# Altium footprint library Connector Wire to Board.PcbLib: 47 footprints (part 2 of 3)
Each footprint in its own frame and in the unit in brackets; x right, y up, seen from the top. Pads: shape width x height; smd on the part's side, far side on the other; paste and mask are expansions set on the pad; w line width, h text height; cw(c..) or ccw(c..) is an arc to the next point about the centre after c.
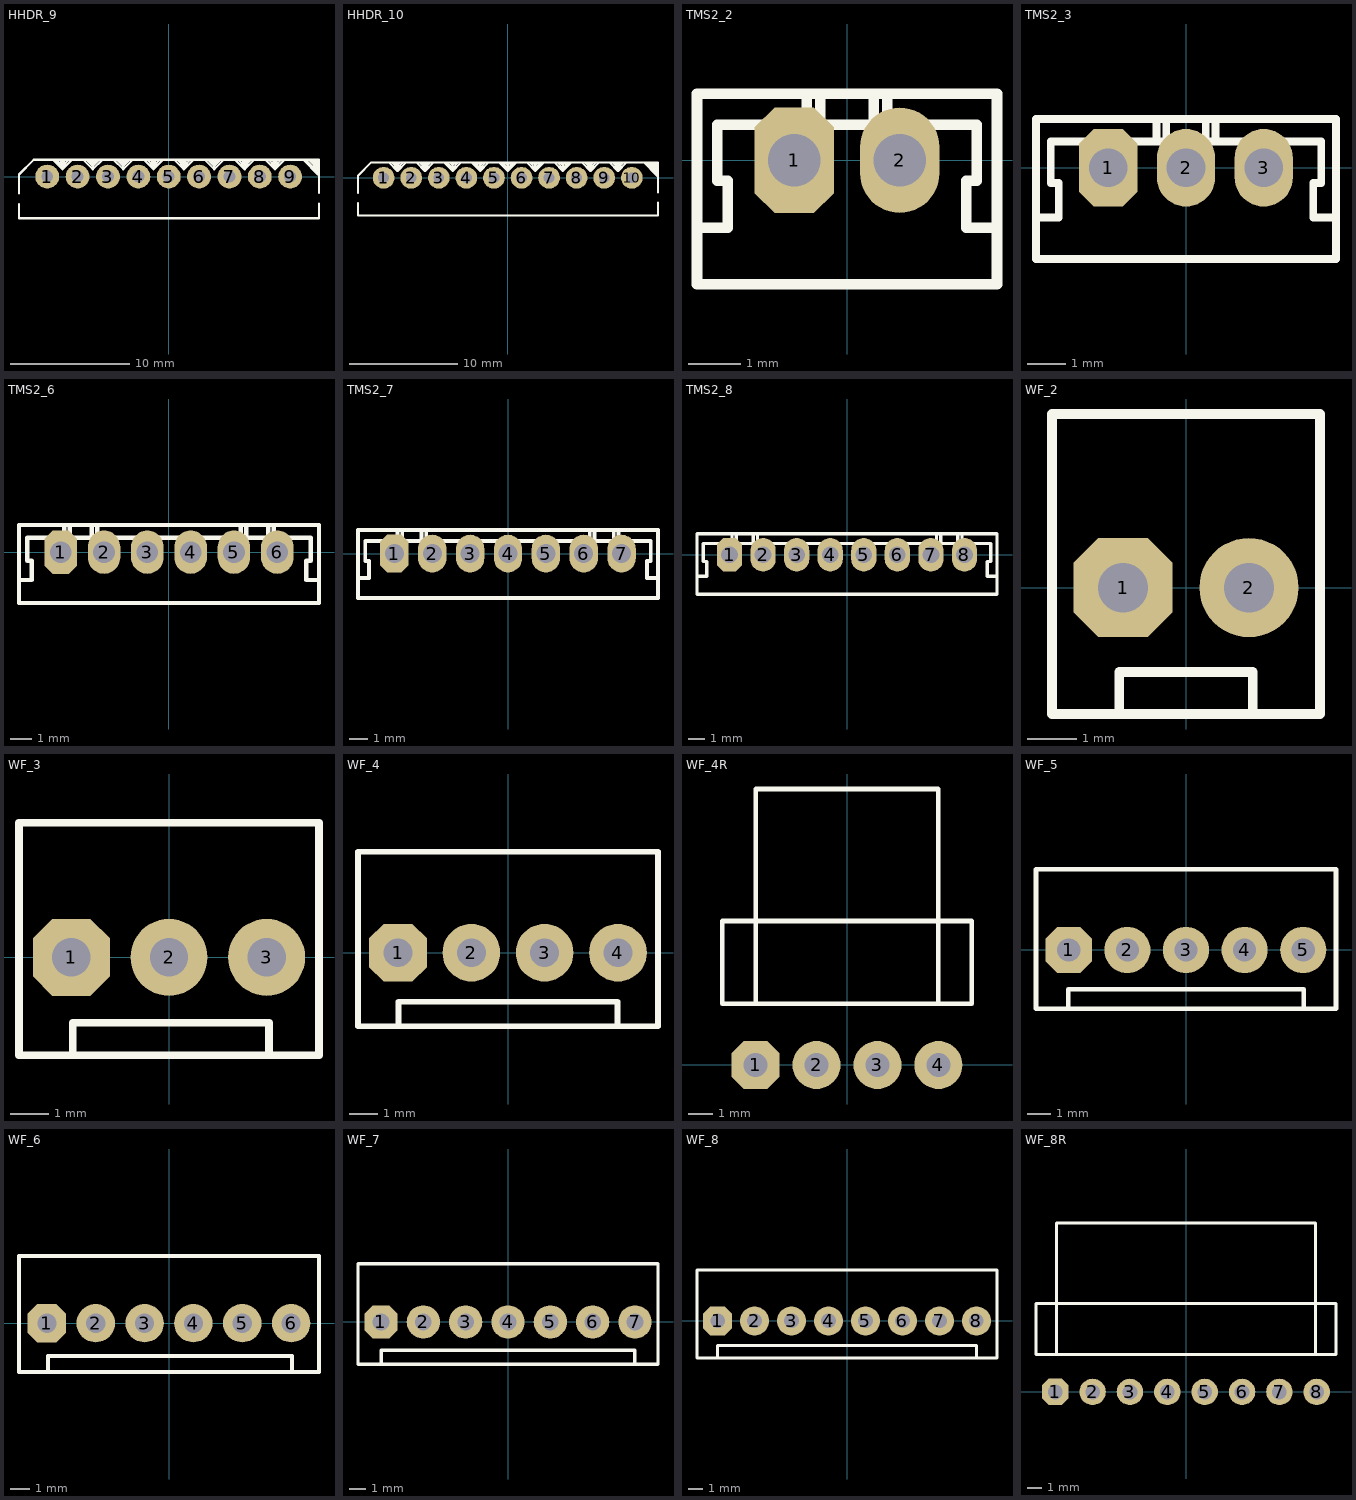
[diagram p1: the footprints below, top view; thin cyan lines are the x and y axes]

## HHDR_9 [mm]
pads (9):
  round 2 hole 1: 1(-10.16,0) 2(-7.62,0) 3(-5.08,0) 4(-2.54,0) 5(0,0) 6(2.54,0) 7(5.08,0) 8(7.62,0) 9(10.16,0)
Top Overlay:
  lines w0.2: -12.525,-2.325 -12.525,-3.485 12.573,-3.485 12.573,-2.269 ; -12.525,-1.405 -12.525,0.185 -11.295,1.415 12.573,1.415 12.573,-1.349 ; -9.69,1.415 -8.89,0.615 ; -9.416,1.415 -8.89,0.889 -8.364,1.415 ; -9.162,1.415 -8.89,1.143 -8.618,1.415 ; -8.89,1.415 -8.89,0.615 ; -8.09,1.415 -8.89,0.615 ; -7.15,1.415 -6.35,0.615 ; -6.876,1.415 -6.35,0.889 -5.824,1.415 ; -6.622,1.415 -6.35,1.143 -6.078,1.415 ; -6.35,1.415 -6.35,0.615 ; -5.55,1.415 -6.35,0.615 ; -4.61,1.415 -3.81,0.615 ; -4.336,1.415 -3.81,0.889 -3.284,1.415 ; -4.082,1.415 -3.81,1.143 -3.538,1.415 ; -3.81,1.415 -3.81,0.615 ; -3.01,1.415 -3.81,0.615 ; -2.07,1.415 -1.27,0.615 ; -1.796,1.415 -1.27,0.889 -0.744,1.415 ; -1.542,1.415 -1.27,1.143 -0.998,1.415 ; -1.27,1.415 -1.27,0.615 ; -0.47,1.415 -1.27,0.615 ; 0.47,1.415 1.27,0.615 ; 0.744,1.415 1.27,0.889 1.796,1.415 ; 0.998,1.415 1.27,1.143 1.542,1.415 ; 1.27,1.415 1.27,0.615 ; 2.07,1.415 1.27,0.615 ; 3.01,1.415 3.81,0.615 ; 3.284,1.415 3.81,0.889 4.336,1.415 ; 3.538,1.415 3.81,1.143 4.082,1.415 ; 3.81,1.415 3.81,0.615 ; 4.61,1.415 3.81,0.615 ; 5.55,1.415 6.35,0.615 ; 5.824,1.415 6.35,0.889 6.876,1.415 ; 6.078,1.415 6.35,1.143 6.622,1.415 ; 6.35,1.415 6.35,0.615 ; 7.15,1.415 6.35,0.615 ; 8.09,1.415 8.89,0.615 ; 8.364,1.415 8.89,0.889 9.416,1.415 ; 8.618,1.415 8.89,1.143 9.162,1.415 ; 8.89,1.415 8.89,0.615 ; 9.69,1.415 8.89,0.615 ; 11.255,1.415 12.485,0.185 ; 11.469,1.415 12.485,0.399 12.485,0.653 11.723,1.415 11.977,1.415 12.485,0.907 12.485,1.161 12.231,1.415

## HHDR_10 [mm]
pads (10):
  round 2 hole 1: 1(-11.43,0) 2(-8.89,0) 3(-6.35,0) 4(-3.81,0) 5(-1.27,0) 6(1.27,0) 7(3.81,0) 8(6.35,0) 9(8.89,0) 10(11.43,0)
Top Overlay:
  lines w0.2: -13.795,-2.325 -13.795,-3.485 13.843,-3.485 13.843,-2.269 ; -13.795,-1.405 -13.795,0.185 -12.565,1.415 13.843,1.415 13.843,-1.349 ; -10.96,1.415 -10.16,0.615 ; -10.686,1.415 -10.16,0.889 -9.634,1.415 ; -10.432,1.415 -10.16,1.143 -9.888,1.415 ; -10.16,1.415 -10.16,0.615 ; -9.36,1.415 -10.16,0.615 ; -8.42,1.415 -7.62,0.615 ; -8.146,1.415 -7.62,0.889 -7.094,1.415 ; -7.892,1.415 -7.62,1.143 -7.348,1.415 ; -7.62,1.415 -7.62,0.615 ; -6.82,1.415 -7.62,0.615 ; -5.88,1.415 -5.08,0.615 ; -5.606,1.415 -5.08,0.889 -4.554,1.415 ; -5.352,1.415 -5.08,1.143 -4.808,1.415 ; -5.08,1.415 -5.08,0.615 ; -4.28,1.415 -5.08,0.615 ; -3.34,1.415 -2.54,0.615 ; -3.066,1.415 -2.54,0.889 -2.014,1.415 ; -2.812,1.415 -2.54,1.143 -2.268,1.415 ; -2.54,1.415 -2.54,0.615 ; -1.74,1.415 -2.54,0.615 ; -0.8,1.415 0,0.615 ; -0.526,1.415 0,0.889 0.526,1.415 ; -0.272,1.415 0,1.143 0.272,1.415 ; 0,1.415 0,0.615 ; 0.8,1.415 0,0.615 ; 1.74,1.415 2.54,0.615 ; 2.014,1.415 2.54,0.889 3.066,1.415 ; 2.268,1.415 2.54,1.143 2.812,1.415 ; 2.54,1.415 2.54,0.615 ; 3.34,1.415 2.54,0.615 ; 4.28,1.415 5.08,0.615 ; 4.554,1.415 5.08,0.889 5.606,1.415 ; 4.808,1.415 5.08,1.143 5.352,1.415 ; 5.08,1.415 5.08,0.615 ; 5.88,1.415 5.08,0.615 ; 6.82,1.415 7.62,0.615 ; 7.094,1.415 7.62,0.889 8.146,1.415 ; 7.348,1.415 7.62,1.143 7.892,1.415 ; 7.62,1.415 7.62,0.615 ; 8.42,1.415 7.62,0.615 ; 9.36,1.415 10.16,0.615 ; 9.634,1.415 10.16,0.889 10.686,1.415 ; 9.888,1.415 10.16,1.143 10.432,1.415 ; 10.16,1.415 10.16,0.615 ; 10.96,1.415 10.16,0.615 ; 12.525,1.415 13.755,0.185 ; 12.739,1.415 13.755,0.399 13.755,0.653 12.993,1.415 13.247,1.415 13.755,0.907 13.755,1.161 13.501,1.415

## TMS2_2 [mm] "pitch: 2.0mm"
pads (2):
  oct 1.5x2 hole 1: 1(-1,0)
  oval 1.5x2 hole 1: 2(1,0)
Top Overlay:
  lines w0.2: -2.845,-1.283 -2.261,-1.283 -2.261,-0.394 -2.464,-0.394 -2.464,0.673 2.464,0.673 2.464,-0.394 2.261,-0.394 2.261,-1.283 2.845,-1.283 ; -0.762,0.673 -0.762,1.257 ; -0.508,0.673 -0.508,1.257 ; 0.508,0.673 0.508,1.257 ; 0.762,0.673 0.762,1.257 ; -2.845,-2.35 2.845,-2.35 2.845,1.257 -2.845,1.257 -2.845,-2.35

## TMS2_3 [mm] "pitch: 2.0mm"
pads (3):
  oct 1.5x2 hole 1: 1(-2,0)
  oval 1.5x2 hole 1: 2(0,0) 3(2,0)
Top Overlay:
  lines w0.2: -3.861,-1.283 -3.277,-1.283 -3.277,-0.394 -3.48,-0.394 -3.48,0.673 3.48,0.673 3.48,-0.394 3.277,-0.394 3.277,-1.283 3.861,-1.283 ; -0.762,0.673 -0.762,1.257 ; -0.508,0.673 -0.508,1.257 ; 0.508,0.673 0.508,1.257 ; 0.762,0.673 0.762,1.257 ; -3.861,-2.35 3.861,-2.35 3.861,1.257 -3.861,1.257 -3.861,-2.35

## TMS2_6 [mm] "pitch: 2.0mm"
pads (6):
  oct 1.5x2 hole 1: 1(-5,0)
  oval 1.5x2 hole 1: 2(-3,0) 3(-1,0) 4(1,0) 5(3,0) 6(5,0)
Top Overlay:
  lines w0.2: -6.925,-1.283 -6.341,-1.283 -6.341,-0.394 -6.544,-0.394 -6.544,0.673 6.544,0.673 6.544,-0.394 6.341,-0.394 6.341,-1.283 6.925,-1.283 ; -4.842,0.673 -4.842,1.257 ; -4.588,0.673 -4.588,1.257 ; -3.572,0.673 -3.572,1.257 ; -3.318,0.673 -3.318,1.257 ; 3.318,0.673 3.318,1.257 ; 3.572,0.673 3.572,1.257 ; 4.588,0.673 4.588,1.257 ; 4.842,0.673 4.842,1.257 ; -6.925,-2.35 6.925,-2.35 6.925,1.257 -6.925,1.257 -6.925,-2.35

## TMS2_7 [mm] "pitch: 2.0mm"
pads (7):
  oct 1.5x2 hole 1: 1(-6,0)
  oval 1.5x2 hole 1: 2(-4,0) 3(-2,0) 4(0,0) 5(2,0) 6(4,0) 7(6,0)
Top Overlay:
  lines w0.2: -7.925,-1.283 -7.341,-1.283 -7.341,-0.394 -7.544,-0.394 -7.544,0.673 7.544,0.673 7.544,-0.394 7.341,-0.394 7.341,-1.283 7.925,-1.283 ; -5.842,0.673 -5.842,1.257 ; -5.588,0.673 -5.588,1.257 ; -4.572,0.673 -4.572,1.257 ; -4.318,0.673 -4.318,1.257 ; 4.318,0.673 4.318,1.257 ; 4.572,0.673 4.572,1.257 ; 5.588,0.673 5.588,1.257 ; 5.842,0.673 5.842,1.257 ; -7.925,-2.35 7.925,-2.35 7.925,1.257 -7.925,1.257 -7.925,-2.35

## TMS2_8 [mm] "pitch: 2.0mm"
pads (8):
  oct 1.5x2 hole 1: 1(-7,0)
  oval 1.5x2 hole 1: 2(-5,0) 3(-3,0) 4(-1,0) 5(1,0) 6(3,0) 7(5,0) 8(7,0)
Top Overlay:
  lines w0.2: -8.941,-1.283 -8.357,-1.283 -8.357,-0.394 -8.56,-0.394 -8.56,0.673 8.56,0.673 8.56,-0.394 8.357,-0.394 8.357,-1.283 8.941,-1.283 ; -6.858,0.673 -6.858,1.257 ; -6.604,0.673 -6.604,1.257 ; -5.588,0.673 -5.588,1.257 ; -5.334,0.673 -5.334,1.257 ; 5.334,0.673 5.334,1.257 ; 5.588,0.673 5.588,1.257 ; 6.604,0.673 6.604,1.257 ; 6.858,0.673 6.858,1.257 ; -8.941,-2.35 -8.941,1.257 8.941,1.257 8.941,-2.35 -8.941,-2.35

## WF_2 [mm] "DS1070  WF, Cvilux CI31 pitch 2.54mm"
pads (2):
  oct 2x2 hole 1: 1(-1.27,0)
  round 2 hole 1: 2(1.27,0)
Top Overlay:
  lines w0.2: -1.346,-2.548 -1.346,-1.7 1.346,-1.7 1.346,-2.548 ; -2.7,-2.548 2.7,-2.548 2.7,3.5 -2.7,3.5 -2.7,-2.548
3D body "User Library-CI31_2.step": height 11.56, standoff -3.24, extent -2.54,-2.402 2.54,3.398

## WF_3 [mm] "DS1070  WF, Cvilux CI31 pitch 2.54mm"
pads (3):
  oct 2x2 hole 1: 1(-2.54,0)
  round 2 hole 1: 2(0,0) 3(2.54,0)
Top Overlay:
  lines w0.2: -2.5,-2.548 -2.5,-1.7 2.6,-1.7 2.6,-2.548 ; -3.9,-2.548 3.9,-2.548 3.9,3.5 -3.9,3.5 -3.9,-2.548
3D body "User Library-CI31_3.step": height 11.56, standoff -3.24, extent -3.81,-2.4 3.81,3.4

## WF_4 [mm] "DS1070  WF, Cvilux CI31 pitch 2.54mm"
pads (4):
  oct 2x2 hole 1: 1(-3.81,0)
  round 2 hole 1: 2(-1.27,0) 3(1.27,0) 4(3.81,0)
Top Overlay:
  lines w0.2: -3.8,-2.548 -3.8,-1.7 3.8,-1.7 3.8,-2.548 ; -5.2,-2.548 -5.2,3.5 5.2,3.5 5.2,-2.548 -5.2,-2.548
3D body "User Library-CI31_4.step": height 11.56, standoff -3.24, extent -5.08,-2.402 5.08,3.398

## WF_4R [mm] "DS1070  WF, Cvilux CI31 pitch 2.54mm right angle"
pads (4):
  oct 2x2 hole 1: 1(-3.81,0)
  round 2 hole 1: 2(-1.27,0) 3(1.27,0) 4(3.81,0)
Top Overlay:
  lines w0.2: -3.8,2.548 -3.8,11.5 3.8,11.5 3.8,2.548 ; -5.2,2.548 5.2,2.548 5.2,6 -5.2,6 -5.2,2.548
3D body "molex-kk254-right-4.stp": height 6.38, standoff -3.56, extent -5.004,-0.336 5.004,12.593

## WF_5 [mm] "DS1070  WF, Cvilux CI31 pitch 2.54mm"
pads (5):
  oct 2x2 hole 1: 1(-5.08,0)
  round 2 hole 1: 2(-2.54,0) 3(0,0) 4(2.54,0) 5(5.08,0)
Top Overlay:
  lines w0.2: -5.1,-2.548 -5.1,-1.7 5.1,-1.7 5.1,-2.548 ; -6.5,-2.548 -6.5,3.5 6.5,3.5 6.5,-2.548 -6.5,-2.548
3D body "User Library-CI31_5.step": height 11.56, standoff -3.24, extent -6.35,-2.4 6.35,3.4

## WF_6 [mm] "DS1070  WF, Cvilux CI31 pitch 2.54mm"
pads (6):
  oct 2x2 hole 1: 1(-6.35,0)
  round 2 hole 1: 2(-3.81,0) 3(-1.27,0) 4(1.27,0) 5(3.81,0) 6(6.35,0)
Top Overlay:
  lines w0.2: -6.3,-2.548 -6.3,-1.7 6.4,-1.7 6.4,-2.548 ; -7.8,-2.548 7.8,-2.548 7.8,3.5 -7.8,3.5 -7.8,-2.548
3D body "User Library-CI31_6.step": height 11.56, standoff -3.24, extent -7.62,-2.402 7.62,3.398

## WF_7 [mm] "DS1070  WF, Cvilux CI31 pitch 2.54mm"
pads (7):
  oct 2x2 hole 1: 1(-7.62,0)
  round 2 hole 1: 2(-5.08,0) 3(-2.54,0) 4(0,0) 5(2.54,0) 6(5.08,0) 7(7.62,0)
Top Overlay:
  lines w0.2: -7.6,-2.548 -7.6,-1.7 7.6,-1.7 7.6,-2.548 ; -9,-2.548 9,-2.548 9,3.5 -9,3.5 -9,-2.548
3D body "User Library-CI31_7.step": height 11.56, standoff -3.24, extent -8.89,-2.4 8.89,3.4

## WF_8 [mm] "DS1070  WF, Cvilux CI31 pitch 2.54mm"
pads (8):
  oct 2x2 hole 1: 1(-8.89,0)
  round 2 hole 1: 2(-6.35,0) 3(-3.81,0) 4(-1.27,0) 5(1.27,0) 6(3.81,0) 7(6.35,0) 8(8.89,0)
Top Overlay:
  lines w0.2: -1.346,-2.548 -10.3,-2.548 -10.3,3.5 10.3,3.5 10.3,-2.548 1.346,-2.548 ; -8.9,-2.548 -8.9,-1.7 8.9,-1.7 8.9,-2.548 -8.9,-2.548
3D body "User Library-CI31_8.step": height 11.56, standoff -3.24, extent -10.16,-2.402 10.16,3.398

## WF_8R [mm] "DS1070  WF, Cvilux CI31 pitch 2.54mm right angle"
pads (8):
  oct 1.8x1.8 hole 1 mask+0.1: 1(-8.89,0)
  round 1.8 hole 1 mask+0.1: 2(-6.35,0) 3(-3.81,0) 4(-1.27,0) 5(1.27,0) 6(3.81,0) 7(6.35,0) 8(8.89,0)
Top Overlay:
  lines w0.2: -8.8,2.548 -8.8,11.5 8.8,11.5 8.8,2.548 ; -10.2,2.548 -10.2,6 10.2,6 10.2,2.548 -10.2,2.548
3D body "molex-kk254-right-8.stp": height 6.38, standoff -3.56, extent -10.084,-0.336 10.084,12.593